# Altium schematic symbol library 7UL1G04FS.SchLib: 1 symbol
Pins are listed as number, name and electrical type; pins without a type are passive.

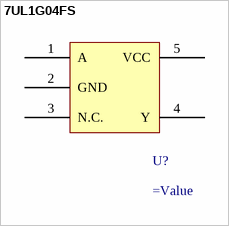
[diagram p0: symbol 7UL1G04FS]

## 7UL1G04FS
designator U?
pins: 1 A, 2 GND, 3 N.C., 4 Y, 5 VCC